# EAGLE library part MA32-1W (library 64-pol-verbinder)
PIN HEADER
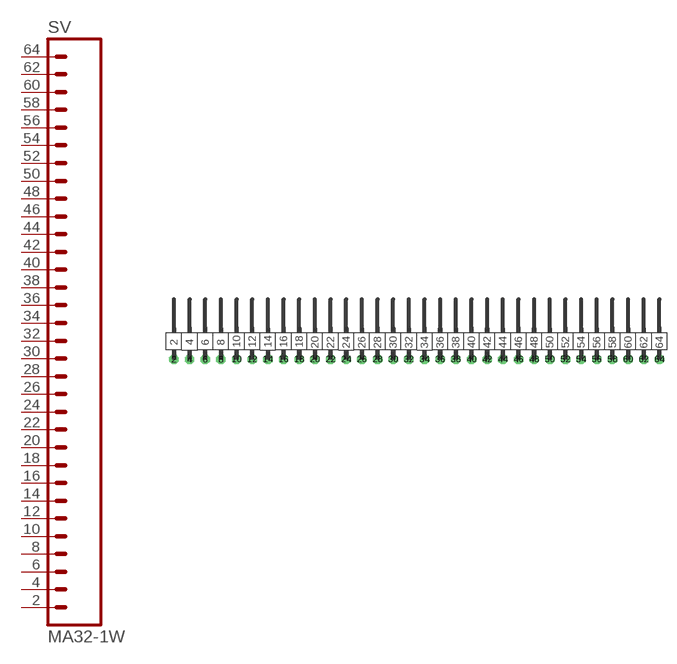
[diagram p2: symbol with the pads of MA32-1W; footprint MA32-1W]

Designator prefix SV

## MA32-1W  [MA32-1W]
2  2  pas
4  4  pas
6  6  pas
8  8  pas
10  10  pas
12  12  pas
14  14  pas
16  16  pas
18  18  pas
20  20  pas
22  22  pas
24  24  pas
26  26  pas
28  28  pas
30  30  pas
32  32  pas
34  34  pas
36  36  pas
38  38  pas
40  40  pas
42  42  pas
44  44  pas
46  46  pas
48  48  pas
50  50  pas
52  52  pas
54  54  pas
56  56  pas
58  58  pas
60  60  pas
62  62  pas
64  64  pas

## Footprint MA32-1W (pad centres in mm)
PIN HEADER
drill 1.016 octagon: 2 -36.83,1.27; 4 -34.29,1.27; 6 -31.75,1.27; 8 -29.21,1.27; 10 -26.67,1.27; 12 -24.13,1.27; 14 -21.59,1.27; 16 -19.05,1.27; 18 -16.51,1.27; 20 -13.97,1.27; 22 -11.43,1.27; 24 -8.89,1.27; 26 -6.35,1.27; 28 -3.81,1.27; 30 -1.27,1.27; 32 1.27,1.27; 34 3.81,1.27; 36 6.35,1.27; 38 8.89,1.27; 40 11.43,1.27; 42 13.97,1.27; 44 16.51,1.27; 46 19.05,1.27; 48 21.59,1.27; 50 24.13,1.27; 52 26.67,1.27; 54 29.21,1.27; 56 31.75,1.27; 58 34.29,1.27; 60 36.83,1.27; 62 39.37,1.27; 64 41.91,1.27